# Altium schematic symbol library KPT1001S.SchLib: 41 symbols
Pins are listed as number, name and electrical type; pins without a type are passive.

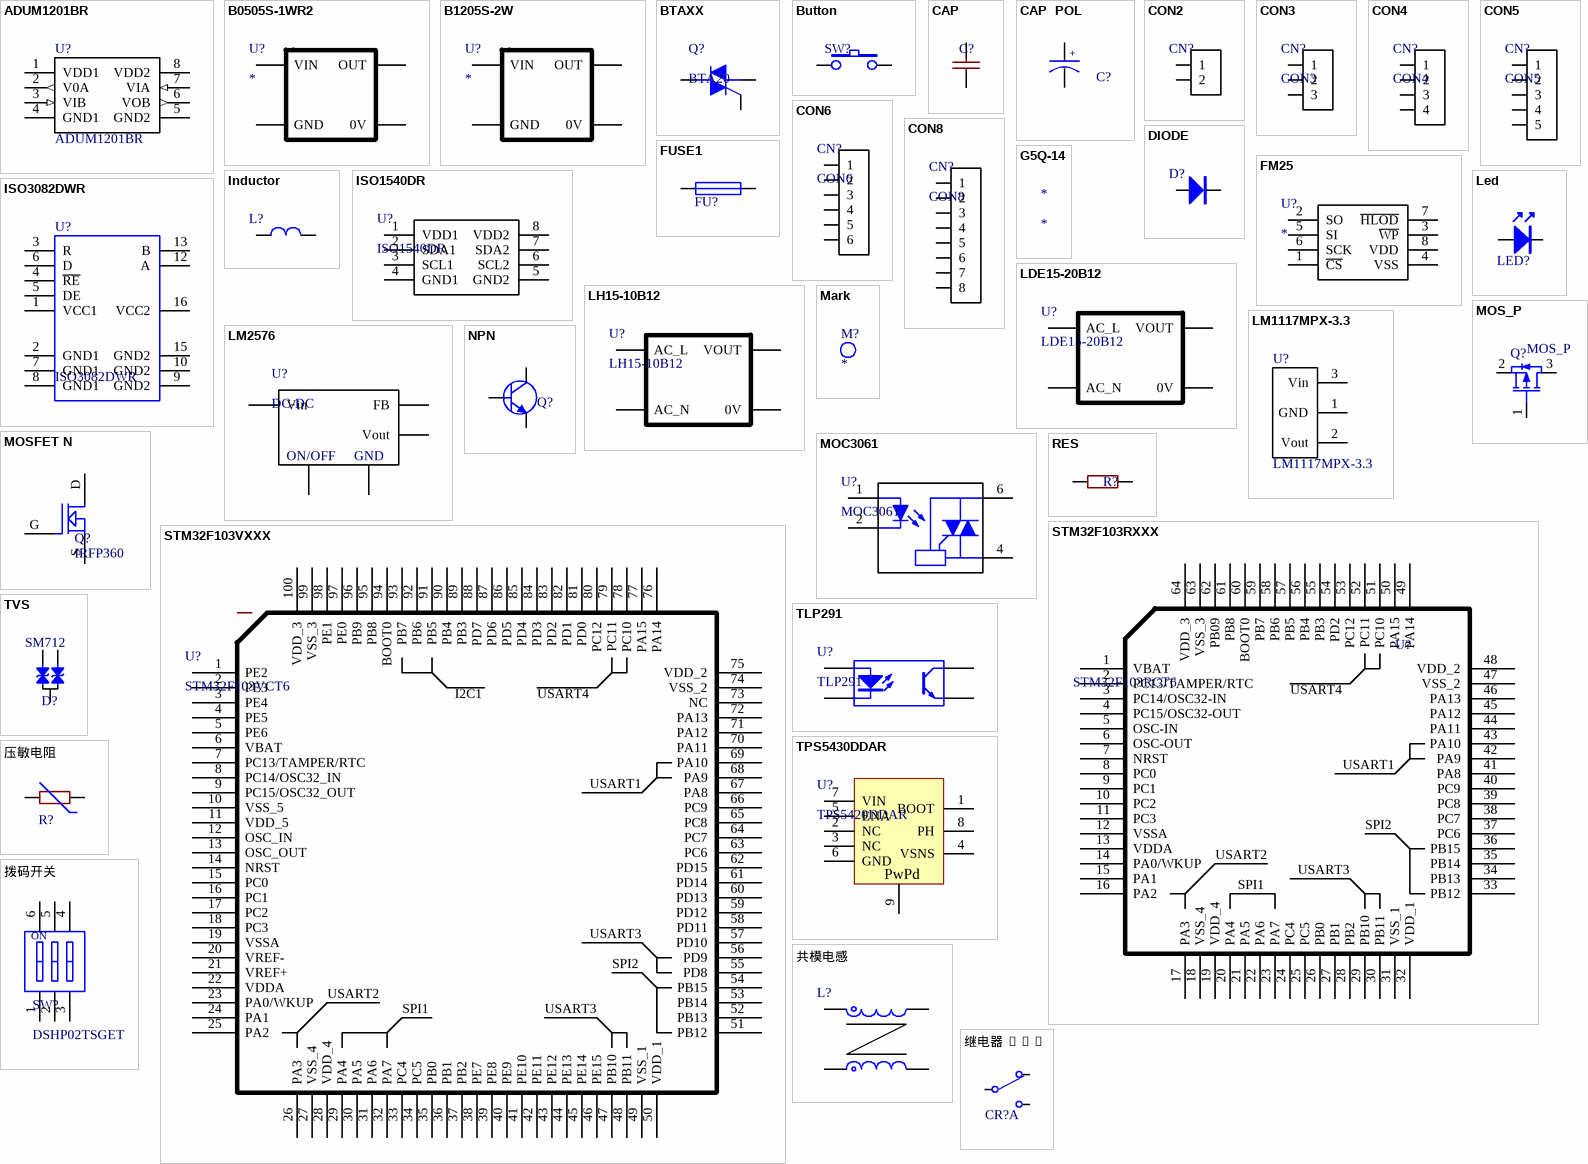
[diagram p0: symbols ADUM1201BR to 继电器]

## ADUM1201BR
designator U?
Quad-Channel Digital Isolators; ADI(亚德诺): ADUM1201BRZ
footprint SO8 (150mil)
pins: 1 VDD1 (power), 2 V0A (out), 3 VIB (in), 4 GND1 (power), 5 GND2 (power), 6 VOB (out), 7 VIA (in), 8 VDD2 (power)

## B0505S-1WR2
designator U?
5V转5V电源隔离模块
footprint B0505S_1W
pins: 1 GND, 2 VIN, 3 0V, 4 OUT

## B1205S-2W
designator U?
12V转5V电源隔离模块
footprint DCDC-BS2W
pins: 1 VIN, 2 GND, 4 0V, 6 OUT

## BTAXX
designator Q?, comment BTA20
ST(意法半导体): BTA20-600CWRG
pins: 1 A1, 2 A2, 3 G

## Button
designator SW?  (value not drawn)
按键12*12*7.3
footprint 按键12*12*7.3
footprint SW2_12x12 (欧姆龙按钮)
footprint SW4 (按钮侧立式)
pins: 1, 2

## CAP
designator C?
电容; 风华: 0603CG200J500NT; 三星: CL10C200JB8NNNC; 三星: CL10B104JB8NNNC; 风华: 0603B104J500NT
footprint 0603_C
footprint 0805_C
footprint 1206_C
pins: 1, 2

## CAP  POL
designator C?
电解电容
footprint HONOR_63X54
footprint HONOR_10X105 (贴装铝电解)
pins: 1, 2
text: +

## CON2
designator CN?
连接器; KANGNEX(康奈克斯电气): HB9500-2P 黑色
footprint HB9500-2P (接线端子)
footprint WJ128V-2P
pins: 1, 2

## CON3
designator CN?
连接器
footprint HB9500-3P (接线端子)
footprint WJ128V-3P
footprint 连接器3X
pins: 1, 2, 3

## CON4
designator CN?
连接器
pins: 1, 2, 3, 4

## CON5
designator CN?
连接器
pins: 1, 2, 3, 4, 5

## CON6
designator CN?
连接器
footprint CON6
pins: 1, 2, 3, 4, 5, 6

## CON8
designator CN?
连接器
pins: 1, 2, 3, 4, 5, 6, 7, 8

## DIODE
designator D?
二极管
footprint 二极管SOD-123
footprint 发光二极管0805
footprint 二极管SMA (Magnetic-Core Inductor with Windin)
footprint MUR
footprint 二极管12AK
footprint 二极管SMC
pins: A, K

## FM25
designator U?
FRAM存储器
footprint SO8 (150mil)
pins: 1 ~{CS}, 2 SO, 3 ~{WP}, 4 VSS, 5 SI, 6 SCK, 7 ~{HLOD}, 8 VDD

## FUSE1
designator FU?  (value not drawn)
保险
footprint BX
footprint BLX5*20
footprint RAD0.2 (压敏电阻10d)
pins: 1, 2

## G5Q-14
designator *

## Inductor
designator L?  (value not drawn)
电感
footprint 0603_L
footprint 0805_L
footprint 1206_L
pins: 1, 2

## ISO1540DR
designator U?
I2C隔离芯片
footprint SO8 (150mil)
pins: 1 VDD1 (power), 2 SDA1, 3 SCL1, 4 GND1 (power), 5 GND2 (power), 6 SCL2, 7 SDA2, 8 VDD2 (power)

## ISO3082DWR
designator U?
485隔离芯片
footprint SOIC_16
pins: 1 VCC1, 2 GND1, 3 R, 4 ~{RE}, 5 DE, 6 D, 7 GND1, 8 GND1, 9 GND2, 10 GND2, 11 NC hidden, 12 A, 13 B, 14 NC hidden, 15 GND2, 16 VCC2

## LDE15-20B12
designator U?
220转12V AC模块
footprint LDE15 (金升阳ACDC电源模块)
pins: 1 AC_N, 2 AC_L, 3 0V, 4 VOUT

## Led
designator LED?  (value not drawn)
发光二极管
footprint 0603_LED
footprint 0805_LED
pins: A, K

## LH15-10B12
designator U?
220转12V AC模块
footprint LH15 (金升阳ACDC电源模块)
pins: 2 AC_N, 3 AC_L, 4 0V, 8 VOUT

## LM1117MPX-3.3
designator U?
LM1117 3.3V固定输出
footprint SOT-223
pins: 1 GND, 2 Vout, 3 Vin

## LM2576
designator U?, comment DC-DC
降压模块3A
footprint TO-263-5L
pins: 1 Vin (power), 2 Vout, 3 GND (power), 4 FB, 5 ON/OFF

## Mark
designator M?
标识点
footprint Mark

## MOC3061
designator U?
光耦; ON(安森美): MOC3061SR2M
footprint SMT-6PIN
pins: 1 ANODE, 2 CATHODE, 3 N/C hidden, 4 MT, 5 N/C hidden, 6 MT

## MOS_P
designator Q?
footprint SOT-23
pins: 1 G, 2 S, 3 D

## MOSFET N
designator Q?, comment IRFP360
MOS管
footprint 稳压块-S-MOS
footprint TO-252-2L
footprint 稳压块-MOS
footprint S-MOS大散热器
footprint 稳压块-S-MOS-540
footprint SOT-23 - MOS
pins: D DRAIN, G GATE, S SOURCE

## NPN
designator Q?, comment 1318  (value not drawn)
三极管
footprint SOT-23
pins: 1 B, 2 E, 3 C

## RES
designator R?
电阻
footprint 0603_R
footprint 0805_R
footprint 1206_R
pins: 1, 2

## STM32F103RXXX
designator U?, comment STM32F103RCT6
STM32 64Pin
footprint LQFP64 (TSQFP, 64-Leads, Body 12.0x12.0mm (max), Pitch 0.50mm, IPC Medium Density)
pins: 1 VBAT (power), 2 PC13/TAMPER/RTC, 3 PC14/OSC32-IN, 4 PC15/OSC32-OUT, 5 OSC-IN, 6 OSC-OUT, 7 NRST, 8 PC0, 9 PC1, 10 PC2, 11 PC3, 12 VSSA (power), 13 VDDA (power), 14 PA0/WKUP, 15 PA1, 16 PA2, 17 PA3, 18 VSS_4 (power), 19 VDD_4 (power), 20 PA4, 21 PA5, 22 PA6, 23 PA7, 24 PC4, 25 PC5, 26 PB0, 27 PB1, 28 PB2, 29 PB10, 30 PB11, 31 VSS_1, 32 VDD_1, 33 PB12, 34 PB13, 35 PB14, 36 PB15, 37 PC6, 38 PC7, 39 PC8, 40 PC9, 41 PA8, 42 PA9, 43 PA10, 44 PA11, 45 PA12, 46 PA13, 47 VSS_2 (power), 48 VDD_2 (power), 49 PA14, 50 PA15, 51 PC10, 52 PC11, 53 PC12, 54 PD2, 55 PB3, 56 PB4, 57 PB5, 58 PB6, 59 PB7, 60 BOOT0, 61 PB8, 62 PB09, 63 VSS_3, 64 VDD_3
text: USART4; USART1; SPI2; USART2; USART3; SPI1

## STM32F103VXXX
designator U?, comment STM32F103VCT6
STM32 100Pin
footprint LQFP100 (STM32F103VCT6)
pins: 1 PE2, 2 PE3, 3 PE4, 4 PE5, 5 PE6, 6 VBAT (power), 7 PC13/TAMPER/RTC, 8 PC14/OSC32_IN, 9 PC15/OSC32_OUT, 10 VSS_5 (power), 11 VDD_5 (power), 12 OSC_IN, 13 OSC_OUT, 14 NRST, 15 PC0, 16 PC1, 17 PC2, 18 PC3, 19 VSSA (power), 20 VREF-, 21 VREF+, 22 VDDA (power), 23 PA0/WKUP, 24 PA1, 25 PA2, 26 PA3, 27 VSS_4 (power), 28 VDD_4 (power), 29 PA4, 30 PA5, 31 PA6, 32 PA7, 33 PC4, 34 PC5, 35 PB0, 36 PB1, 37 PB2, 38 PE7, 39 PE8, 40 PE9, 41 PE10, 42 PE11, 43 PE12, 44 PE13, 45 PE14, 46 PE15, 47 PB10, 48 PB11, 49 VSS_1 (power), 50 VDD_1 (power), 51 PB12, 52 PB13, 53 PB14, 54 PB15, 55 PD8, 56 PD9, 57 PD10, 58 PD11, 59 PD12, 60 PD13, 61 PD14, 62 PD15, 63 PC6, 64 PC7, 65 PC8, 66 PC9, 67 PA8, 68 PA9, 69 PA10, 70 PA11, 71 PA12, 72 PA13, 73 NC, 74 VSS_2 (power), 75 VDD_2 (power), 76 PA14, 77 PA15, 78 PC10, 79 PC11, 80 PC12, 81 PD0, 82 PD1, 83 PD2, 84 PD3, 85 PD4, 86 PD5, 87 PD6, 88 PD7, 89 PB3, 90 PB4, 91 PB5, 92 PB6, 93 PB7, 94 BOOT0, 95 PB8, 96 PB9, 97 PE0, 98 PE1, 99 VSS_3 (power), 100 VDD_3 (power)
text: I2C1; USART4; USART1; USART3; SPI2; USART2; SPI1

## TLP291
designator U?
footprint sop-4
pins: 1 "Anode", 2 "Cathode", 3 "Emitter", 4 "Collector"

## TPS5430DDAR
designator U?, comment TPS5420DDAR
footprint TPS5430
pins: 1 BOOT, 2 NC, 3 NC, 4 VSNS, 5 ENA, 6 GND, 7 VIN, 8 PH, 9 PwPd

## TVS
designator D?, comment SM712
TVS; 台湾元基: SM712
footprint SOT-23
pins: 1, 2, 3

## 共模电感
designator L?  (value not drawn)
电感; 金升阳: FL2D-Z5-103
footprint FL2D-Z5-103
pins: 1, 2, 3, 4

## 压敏电阻
designator R?, comment 431K10D  (value not drawn)
压敏电阻
footprint RAD0.2 (压敏电阻10d)
pins: 1, 2

## 拨码开关
designator SW?, comment DSHP02TSGET
footprint DSHP02TSGET (拨码开关2p 1.27mm)
pins: 1 A1, 2 A2, 3 B2, 4 B1, 5 B2, 6 B3
text: ON

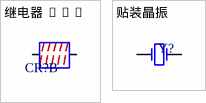
[diagram p1: symbols 继电器 to 贴装晶振]

## 继电器
designator CR?
继电器; Published: 24-Mar-1999; LatestRevisionDate: 17-Jul-2002; LatestRevisionNote: Re-released for DXP Platform.; PackageReference: DIP-P8; Publisher: Altium Limited
footprint G5Q-14 (DC12V)
part A pins: 2, 3, 4
part B pins: 1, 5
1 alternate drawing of the same symbol

## 贴装晶振
designator Y?
Crystal Oscillator; 型号: 5032-SMD8.000M20PF(雅晶)
footprint SMD_5032_4p
pins: 1 OSC1, 2 hidden, 3 OSC2, 4 hidden